# Altium footprint library PC_Footprints.PcbLib: 16 footprints
Each footprint in its own frame and in the unit in brackets; x right, y up, seen from the top. Pads: shape width x height; smd on the part's side, far side on the other; paste and mask are expansions set on the pad; w line width, h text height; cw(c..) or ccw(c..) is an arc to the next point about the centre after c.
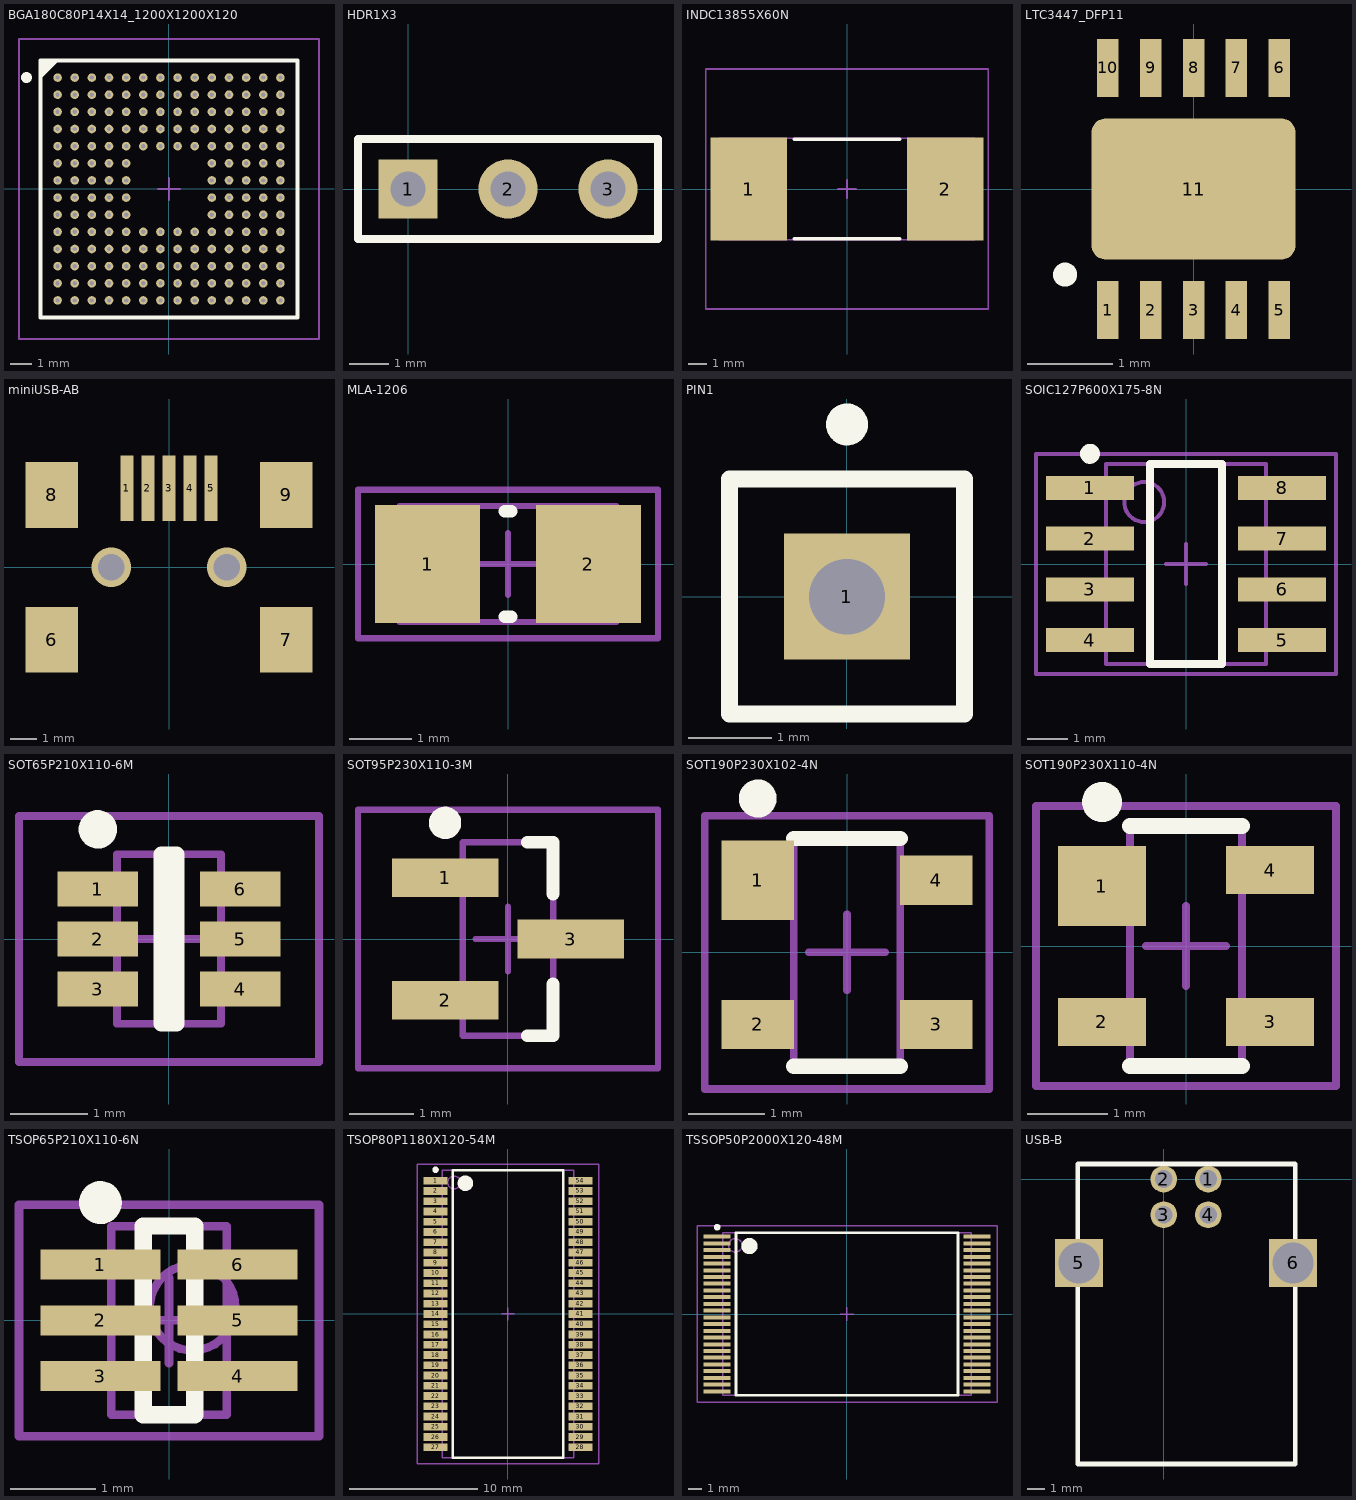
[diagram p0: the footprints below, top view; thin cyan lines are the x and y axes]

## BGA180C80P14X14_1200X1200X120 [mm] "BGA, 180-Leads, Body 12.0x12.0mm,  Pitch 0.80mm"
height 1.2
pads (180):
  round 0.4 hole 0.2: A1(-5.2,5.2) A2(-4.4,5.2) A3(-3.6,5.2) A4(-2.8,5.2) A5(-2,5.2) A6(-1.2,5.2) A7(-0.4,5.2) A8(0.4,5.2) A9(1.2,5.2) A10(2,5.2) A11(2.8,5.2) A12(3.6,5.2) A13(4.4,5.2) A14(5.2,5.2) B1(-5.2,4.4) B2(-4.4,4.4) B3(-3.6,4.4) B4(-2.8,4.4) B5(-2,4.4) B6(-1.2,4.4) B7(-0.4,4.4) B8(0.4,4.4) B9(1.2,4.4) B10(2,4.4) B11(2.8,4.4) B12(3.6,4.4) B13(4.4,4.4) B14(5.2,4.4) C1(-5.2,3.6) C2(-4.4,3.6) C3(-3.6,3.6) C4(-2.8,3.6) C5(-2,3.6) C6(-1.2,3.6) C7(-0.4,3.6) C8(0.4,3.6) C9(1.2,3.6) C10(2,3.6) C11(2.8,3.6) C12(3.6,3.6) C13(4.4,3.6) C14(5.2,3.6) D1(-5.2,2.8) D2(-4.4,2.8) D3(-3.6,2.8) D4(-2.8,2.8) D5(-2,2.8) D6(-1.2,2.8) D7(-0.4,2.8) D8(0.4,2.8) D9(1.2,2.8) D10(2,2.8) D11(2.8,2.8) D12(3.6,2.8) D13(4.4,2.8) D14(5.2,2.8) E1(-5.2,2) E2(-4.4,2) E3(-3.6,2) E4(-2.8,2) E5(-2,2) E6(-1.2,2) E7(-0.4,2) E8(0.4,2) E9(1.2,2) E10(2,2) E11(2.8,2) E12(3.6,2) E13(4.4,2) E14(5.2,2) F1(-5.2,1.2) F2(-4.4,1.2) F3(-3.6,1.2) F4(-2.8,1.2) F5(-2,1.2) F10(2,1.2) F11(2.8,1.2) F12(3.6,1.2) F13(4.4,1.2) F14(5.2,1.2) G1(-5.2,0.4) G2(-4.4,0.4) G3(-3.6,0.4) G4(-2.8,0.4) G5(-2,0.4) G10(2,0.4) G11(2.8,0.4) G12(3.6,0.4) G13(4.4,0.4) G14(5.2,0.4) H1(-5.2,-0.4) H2(-4.4,-0.4) H3(-3.6,-0.4) H4(-2.8,-0.4) H5(-2,-0.4) H10(2,-0.4) H11(2.8,-0.4) H12(3.6,-0.4) H13(4.4,-0.4) H14(5.2,-0.4) J1(-5.2,-1.2) J2(-4.4,-1.2) J3(-3.6,-1.2) J4(-2.8,-1.2) J5(-2,-1.2) J10(2,-1.2) J11(2.8,-1.2) J12(3.6,-1.2) J13(4.4,-1.2) J14(5.2,-1.2) K1(-5.2,-2) K2(-4.4,-2) K3(-3.6,-2) K4(-2.8,-2) K5(-2,-2) K6(-1.2,-2) K7(-0.4,-2) K8(0.4,-2) K9(1.2,-2) K10(2,-2) K11(2.8,-2) K12(3.6,-2) K13(4.4,-2) K14(5.2,-2) L1(-5.2,-2.8) L2(-4.4,-2.8) L3(-3.6,-2.8) L4(-2.8,-2.8) L5(-2,-2.8) L6(-1.2,-2.8) L7(-0.4,-2.8) L8(0.4,-2.8) L9(1.2,-2.8) L10(2,-2.8) L11(2.8,-2.8) L12(3.6,-2.8) L13(4.4,-2.8) L14(5.2,-2.8) M1(-5.2,-3.6) M2(-4.4,-3.6) M3(-3.6,-3.6) M4(-2.8,-3.6) M5(-2,-3.6) M6(-1.2,-3.6) M7(-0.4,-3.6) M8(0.4,-3.6) M9(1.2,-3.6) M10(2,-3.6) M11(2.8,-3.6) M12(3.6,-3.6) M13(4.4,-3.6) M14(5.2,-3.6) N1(-5.2,-4.4) N2(-4.4,-4.4) N3(-3.6,-4.4) N4(-2.8,-4.4) N5(-2,-4.4) N6(-1.2,-4.4) N7(-0.4,-4.4) N8(0.4,-4.4) N9(1.2,-4.4) N10(2,-4.4) N11(2.8,-4.4) N12(3.6,-4.4) N13(4.4,-4.4) N14(5.2,-4.4) P1(-5.2,-5.2) P2(-4.4,-5.2) P3(-3.6,-5.2) P4(-2.8,-5.2) P5(-2,-5.2) P6(-1.2,-5.2) P7(-0.4,-5.2) P8(0.4,-5.2) P9(1.2,-5.2) P10(2,-5.2) P11(2.8,-5.2) P12(3.6,-5.2) P13(4.4,-5.2) P14(5.2,-5.2)
Top Overlay:
  circle w0.25: c-6.65,5.2 r0.125
  region: -5.249,6 -6,5.249 -6,6
  lines w0.2: -6,5.249 -5.249,6 ; -6,-6 -6,6 6,6 6,-6 -6,-6
Mechanical 13:
  lines w0.1: -6,-6 -6,6 6,6 6,-6 -6,-6
Mechanical 15:
  lines w0.1: -0.5,0 0.5,0 ; 0,-0.5 0,0.5 ; -7,-7 -7,7 7,7 7,-7 -7,-7
3D body: height 1.2, standoff 0.3, extent -6,-6 6,6

## HDR1X3 [mm] "Connector; Header; 3 Position"
pads (3):
  rect 1.5x1.5 hole 0.9: 1(0,0)
  round 1.5 hole 0.9: 2(2.54,0) 3(5.08,0)
Top Overlay:
  lines w0.2: -1.27,-1.27 6.35,-1.27 6.35,1.27 -1.27,1.27 -1.27,-1.27

## INDC13855X60N [mm] "Chip Inductor, 2-Leads, Body 13.8x5.5mm, IPC Medium Density"
height 6
pads (2):
  rect 4.15x5.6 smd: 1(-5.325,0) 2(5.325,0)
Top Overlay:
  lines w0.2: -2.85,-2.7 2.85,-2.7 ; -2.85,2.7 2.85,2.7
Mechanical 13:
  lines w0.1: -6.9,-2.75 -6.9,2.75 6.9,2.75 6.9,-2.75 -6.9,-2.75
Mechanical 15:
  lines w0.1: -0.5,0 0.5,0 ; 0,-0.5 0,0.5 ; -7.65,-6.5 -7.65,6.5 7.65,6.5 7.65,-6.5 -7.65,-6.5
3D body: height 6, standoff 0, extent -6.9,-2.75 6.9,2.75

## LTC3447_DFP11 [mm]
height 0.75
pads (11):
  rect 0.25x0.675 smd mask+0.05: 1(-1,-1.412) 2(-0.5,-1.412) 3(0,-1.412) 4(0.5,-1.412) 5(1,-1.412) 6(1,1.412) 7(0.5,1.412) 8(0,1.412) 9(-0.5,1.412) 10(-1,1.412)
  rrect20% 2.38x1.65 smd mask+0.05: 11(0,0)
Top Overlay:
  circle w0.25: c-1.5,-1 r0.015

## miniUSB-AB [mm]
height 4
pads (9):
  rect 0.5x2.5 smd: 1(-1.6,3) 2(-0.8,3) 3(0,3) 4(0.8,3) 5(1.6,3)
  rect 2x2.5 smd mask+0.1: 6(-4.45,-2.75) 7(4.45,-2.75) 8(-4.45,2.75) 9(4.45,2.75)
via 2.2,0 diameter 1.5 hole 1
via -2.2,0 diameter 1.5 hole 1

## MLA-1206 [mm] "Chip Resistor, 2-Leads, Body 3.2x1.6mm, IPC Medium Density"
height 1.8
pads (2):
  rect 1.7x1.9 smd: 1(-1.3,0) 2(1.3,0)
Top Overlay:
  lines w0.2: -0.05,-0.85 0.05,-0.85 ; -0.05,0.85 0.05,0.85
Mechanical 13:
  lines w0.1: -1.75,-0.94 -1.75,0.94 1.75,0.94 1.75,-0.94 -1.75,-0.94
Mechanical 15:
  lines w0.1: -0.5,0 0.5,0 ; 0,-0.5 0,0.5 ; -2.425,-1.2 -2.425,1.2 2.425,1.2 2.425,-1.2 -2.425,-1.2
3D body: height 1.8, standoff 0, extent -1.75,-0.94 1.75,0.94

## PIN1 [mm] "Connector; Plug"
pads (1):
  rect 1.5x1.5 hole 0.9: 1(0,0)
Top Overlay:
  circle w0.25: c0,2.05 r0.125
  lines w0.2: -1.4,-1.4 1.4,-1.4 1.4,1.4 -1.4,1.4 -1.4,-1.4

## SOIC127P600X175-8N [mm] "SOIC, 8-Leads, Body 5.0x4.0mm (max), Pitch 1.27mm, IPC Medium Density"
height 1.752
pads (8):
  rect 2.2x0.6 smd: 1(-2.4,1.905) 2(-2.4,0.635) 3(-2.4,-0.635) 4(-2.4,-1.905) 5(2.4,-1.905) 6(2.4,-0.635) 7(2.4,0.635) 8(2.4,1.905)
Top Overlay:
  circle w0.25: c-2.4,2.755 r0.125
  lines w0.2: -0.9,-2.5 0.9,-2.5 0.9,2.5 -0.9,2.5 -0.9,-2.5
Mechanical 13:
  circle w0.1: c-1.045,1.55 r0.5
  lines w0.1: -1.995,-2.5 1.995,-2.5 1.995,2.5 -1.995,2.5 -1.995,-2.5
Mechanical 15:
  lines w0.1: -0.5,0 0.5,0 ; 0,-0.5 0,0.5 ; -3.75,-2.75 3.75,-2.75 3.75,2.75 -3.75,2.75 -3.75,-2.75
3D body: height 1.75, standoff 0.1, extent -1.995,-2.5 1.995,2.5

## SOT65P210X110-6M [mm] "SOT23, 6-Leads, Body 2.2x2.2mm (max), Pitch 0.65mm, IPC Low Density"
height 1.1
pads (6):
  rect 1.05x0.45 smd: 1(-0.925,0.65) 2(-0.925,0) 3(-0.925,-0.65) 4(0.925,-0.65) 5(0.925,0) 6(0.925,0.65)
Top Overlay:
  circle w0.25: c-0.925,1.425 r0.125
  lines w0.2: -0.1,-1.1 -0.1,1.1 0.1,1.1 0.1,-1.1 -0.1,-1.1
Mechanical 13:
  lines w0.1: -0.675,-1.1 0.675,-1.1 0.675,1.1 -0.675,1.1 -0.675,-1.1
Mechanical 15:
  lines w0.1: -0.5,0 0.5,0 ; 0,-0.5 0,0.5 ; -1.95,-1.6 1.95,-1.6 1.95,1.6 -1.95,1.6 -1.95,-1.6
3D body: height 1.1, standoff 0.05, extent -0.675,-1.1 0.675,1.1

## SOT95P230X110-3M [mm] "SOT23, 3-Leads, Body 3.0x2.5mm (max), Pitch 0.95mm, IPC Low Density"
height 1.1
pads (3):
  rect 1.65x0.6 smd: 1(-0.975,0.95) 2(-0.975,-0.95) 3(0.975,0)
Top Overlay:
  circle w0.25: c-0.975,1.8 r0.125
  lines w0.2: 0.3,-1.5 0.7,-1.5 0.7,-0.7 ; 0.3,1.5 0.7,1.5 0.7,0.7
Mechanical 13:
  lines w0.1: -0.7,-1.5 0.7,-1.5 0.7,1.5 -0.7,1.5 -0.7,-1.5
Mechanical 15:
  lines w0.1: -0.5,0 0.5,0 ; 0,-0.5 0,0.5 ; -2.325,-2 2.325,-2 2.325,2 -2.325,2 -2.325,-2
3D body: height 1.1, standoff 0.05, extent -0.7,-1.5 0.7,1.5

## SOT190P230X102-4N [mm] "SOT143, 4-Leads, Body 3.0x2.5mm (max), Pitch 1.90mm, IPC Medium Density"
height 1.02
pads (4):
  rect 0.95x1.05 smd: 1(-1.175,0.95)
  rect 0.95x0.65 smd: 2(-1.175,-0.95) 3(1.175,-0.95) 4(1.175,0.95)
Top Overlay:
  circle w0.25: c-1.175,2.025 r0.125
  lines w0.2: -0.7,-1.5 0.7,-1.5 ; -0.7,1.5 0.7,1.5
Mechanical 13:
  lines w0.1: -0.7,-1.525 0.7,-1.525 0.7,1.525 -0.7,1.525 -0.7,-1.525
Mechanical 15:
  lines w0.1: -0.5,0 0.5,0 ; 0,-0.5 0,0.5 ; -1.875,-1.8 1.875,-1.8 1.875,1.8 -1.875,1.8 -1.875,-1.8
3D body: height 1.02, standoff 0.79, extent -0.7,-1.525 0.7,1.525

## SOT190P230X110-4N [mm] "SOT143, 4-Leads, Body 3.0x2.5mm (max), Pitch 1.90mm, IPC Medium Density"
height 1.1
pads (4):
  rect 1.1x1 smd: 1(-1.05,0.75)
  rect 1.1x0.6 smd: 2(-1.05,-0.95) 3(1.05,-0.95) 4(1.05,0.95)
Top Overlay:
  circle w0.25: c-1.05,1.8 r0.125
  lines w0.2: -0.7,-1.5 0.7,-1.5 ; -0.7,1.5 0.7,1.5
Mechanical 13:
  lines w0.1: -0.7,-1.5 0.7,-1.5 0.7,1.5 -0.7,1.5 -0.7,-1.5
Mechanical 15:
  lines w0.1: -0.5,0 0.5,0 ; 0,-0.5 0,0.5 ; -1.875,-1.75 1.875,-1.75 1.875,1.75 -1.875,1.75 -1.875,-1.75
3D body: height 1.1, standoff 0.1, extent -0.7,-1.5 0.7,1.5

## TSOP65P210X110-6N [mm] "TSOP, 6-Leads, Body 2.2x1.4mm (max), Pitch 0.65mm, IPC Medium Density"
height 1.1
pads (6):
  rect 1.4x0.35 smd: 1(-0.8,0.65) 2(-0.8,0) 3(-0.8,-0.65) 4(0.8,-0.65) 5(0.8,0) 6(0.8,0.65)
Top Overlay:
  circle w0.25: c-0.8,1.375 r0.125
  lines w0.2: -0.3,-1.1 -0.3,1.1 0.3,1.1 0.3,-1.1 -0.3,-1.1
Mechanical 13:
  circle w0.1: c0.275,0.15 r0.5
  lines w0.1: -0.675,-1.1 -0.675,1.1 0.675,1.1 0.675,-1.1 -0.675,-1.1
Mechanical 15:
  lines w0.1: -0.5,0 0.5,0 ; 0,-0.5 0,0.5 ; -1.75,-1.35 -1.75,1.35 1.75,1.35 1.75,-1.35 -1.75,-1.35
3D body: height 1.1, standoff 0.05, extent -0.675,-1.1 0.675,1.1

## TSOP80P1180X120-54M [mm] "TSOP, 54-Leads, Body 22.4x10.3mm (max), Pitch 0.80mm, IPC Low Density"
height 1.2
pads (54):
  rect 1.85x0.6 smd: 1(-5.65,10.4) 2(-5.65,9.6) 3(-5.65,8.8) 4(-5.65,8) 5(-5.65,7.2) 6(-5.65,6.4) 7(-5.65,5.6) 8(-5.65,4.8) 9(-5.65,4) 10(-5.65,3.2) 11(-5.65,2.4) 12(-5.65,1.6) 13(-5.65,0.8) 14(-5.65,0) 15(-5.65,-0.8) 16(-5.65,-1.6) 17(-5.65,-2.4) 18(-5.65,-3.2) 19(-5.65,-4) 20(-5.65,-4.8) 21(-5.65,-5.6) 22(-5.65,-6.4) 23(-5.65,-7.2) 24(-5.65,-8) 25(-5.65,-8.8) 26(-5.65,-9.6) 27(-5.65,-10.4) 28(5.65,-10.4) 29(5.65,-9.6) 30(5.65,-8.8) 31(5.65,-8) 32(5.65,-7.2) 33(5.65,-6.4) 34(5.65,-5.6) 35(5.65,-4.8) 36(5.65,-4) 37(5.65,-3.2) 38(5.65,-2.4) 39(5.65,-1.6) 40(5.65,-0.8) 41(5.65,0) 42(5.65,0.8) 43(5.65,1.6) 44(5.65,2.4) 45(5.65,3.2) 46(5.65,4) 47(5.65,4.8) 48(5.65,5.6) 49(5.65,6.4) 50(5.65,7.2) 51(5.65,8) 52(5.65,8.8) 53(5.65,9.6) 54(5.65,10.4)
Top Overlay:
  circle w0.6: c-3.325,10.2 r0.3
  circle w0.25: c-5.65,11.25 r0.125
  lines w0.2: -4.325,-11.2 4.325,-11.2 4.325,11.2 -4.325,11.2 -4.325,-11.2
Mechanical 13:
  circle w0.1: c-4.195,10.26 r0.5
  lines w0.1: -5.145,-11.21 5.145,-11.21 5.145,11.21 -5.145,11.21 -5.145,-11.21
Mechanical 15:
  lines w0.1: -0.5,0 0.5,0 ; 0,-0.5 0,0.5 ; -7.075,-11.7 7.075,-11.7 7.075,11.7 -7.075,11.7 -7.075,-11.7
3D body: height 1.2, standoff 0.05, extent -5.145,-11.21 5.145,11.21

## TSSOP50P2000X120-48M [mm] "TSSOP, 48-Leads, Body 12.1x18.5mm (max), Pitch 0.50mm, IPC Low Density"
height 1.2
pads (48):
  rect 2x0.3 smd: 1(-9.65,5.75) 2(-9.65,5.25) 3(-9.65,4.75) 4(-9.65,4.25) 5(-9.65,3.75) 6(-9.65,3.25) 7(-9.65,2.75) 8(-9.65,2.25) 9(-9.65,1.75) 10(-9.65,1.25) 11(-9.65,0.75) 12(-9.65,0.25) 13(-9.65,-0.25) 14(-9.65,-0.75) 15(-9.65,-1.25) 16(-9.65,-1.75) 17(-9.65,-2.25) 18(-9.65,-2.75) 19(-9.65,-3.25) 20(-9.65,-3.75) 21(-9.65,-4.25) 22(-9.65,-4.75) 23(-9.65,-5.25) 24(-9.65,-5.75) 25(9.65,-5.75) 26(9.65,-5.25) 27(9.65,-4.75) 28(9.65,-4.25) 29(9.65,-3.75) 30(9.65,-3.25) 31(9.65,-2.75) 32(9.65,-2.25) 33(9.65,-1.75) 34(9.65,-1.25) 35(9.65,-0.75) 36(9.65,-0.25) 37(9.65,0.25) 38(9.65,0.75) 39(9.65,1.25) 40(9.65,1.75) 41(9.65,2.25) 42(9.65,2.75) 43(9.65,3.25) 44(9.65,3.75) 45(9.65,4.25) 46(9.65,4.75) 47(9.65,5.25) 48(9.65,5.75)
Top Overlay:
  circle w0.6: c-7.25,5.05 r0.3
  circle w0.25: c-9.65,6.45 r0.125
  lines w0.2: -8.25,-6.05 8.25,-6.05 8.25,6.05 -8.25,6.05 -8.25,-6.05
Mechanical 13:
  circle w0.1: c-8.3,5.1 r0.5
  lines w0.1: -9.25,-6.05 9.25,-6.05 9.25,6.05 -9.25,6.05 -9.25,-6.05
Mechanical 15:
  lines w0.1: -0.5,0 0.5,0 ; 0,-0.5 0,0.5 ; -11.15,-6.55 11.15,-6.55 11.15,6.55 -11.15,6.55 -11.15,-6.55
3D body: height 1.2, standoff 0.05, extent -9.25,-6.05 9.25,6.05

## USB-B [mm]
pads (6):
  round 1.5 hole 1: 1(2.5,0) 2(0,0) 3(0,-2) 4(2.5,-2)
  rect 2.7x2.7 hole 2.3: 5(-4.77,-4.71) 6(7.27,-4.71)
Top Overlay:
  lines w0.254: 7.374,0.85 -4.826,0.85 -4.826,-16 7.391,-16 7.391,0.85